# Altium footprint library SamacSys.PcbLib: 5 footprints
Each footprint in its own frame and in the unit in brackets; x right, y up, seen from the top. Pads: shape width x height; smd on the part's side, far side on the other; paste and mask are expansions set on the pad; w line width, h text height; cw(c..) or ccw(c..) is an arc to the next point about the centre after c.
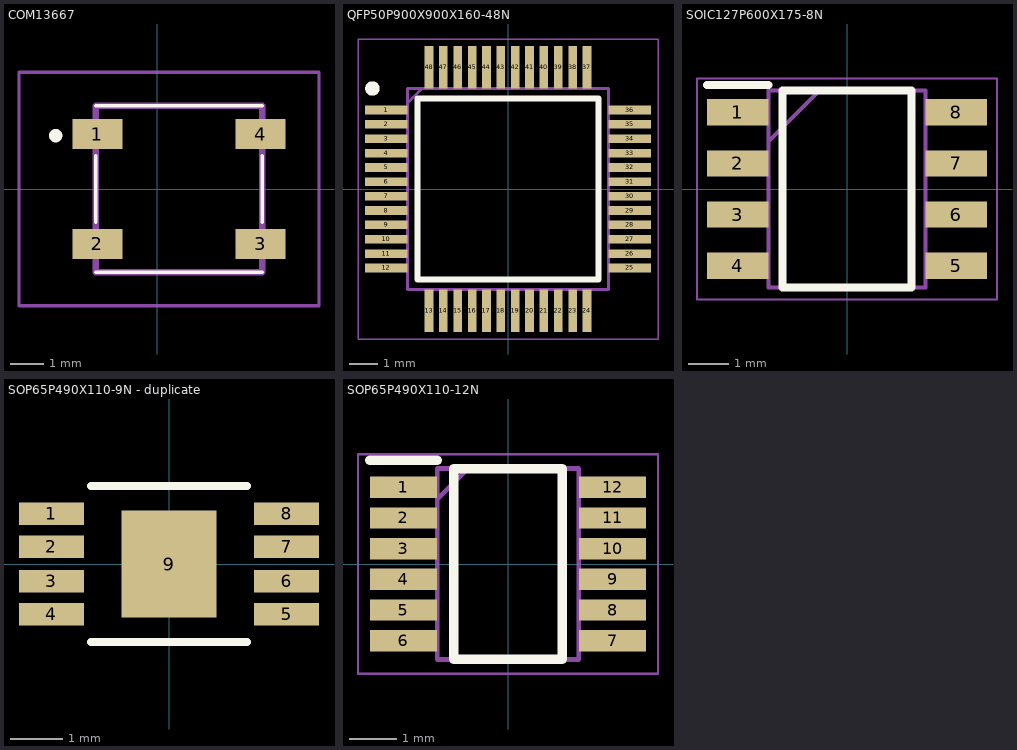
[diagram p0: the footprints below, top view; thin cyan lines are the x and y axes]

## COM13667 [mm]
pads (4):
  rect 1.5x0.9 smd: 1(-1.8,1.65) 2(-1.8,-1.65) 3(3.1,-1.65) 4(3.1,1.65)
Top Overlay:
  lines w0.1: -1.85,-2.5 3.15,-2.5 ; -1.85,-1 -1.85,1 ; -1.85,2.5 3.15,2.5 ; 3.15,-1 3.15,1
  lines w0.2: -3.05,1.5 cw(c-3.05,1.6) -3.05,1.7 cw(c-3.05,1.6) -3.05,1.5
Mechanical 13:
  lines w0.2: -1.85,-2.5 3.15,-2.5 3.15,2.5 -1.85,2.5 -1.85,-2.5
Mechanical 15:
  lines w0.1: -4.15,-3.5 4.85,-3.5 4.85,3.5 -4.15,3.5 -4.15,-3.5
3D body "COM-13667.stp": height 2.1, standoff 0, extent -2.46,-2.5 3.76,2.5

## QFP50P900X900X160-48N [mm]
pads (48):
  rect 1.475x0.3 smd: 1(-4.238,2.75) 2(-4.238,2.25) 3(-4.238,1.75) 4(-4.238,1.25) 5(-4.238,0.75) 6(-4.238,0.25) 7(-4.238,-0.25) 8(-4.238,-0.75) 9(-4.238,-1.25) 10(-4.238,-1.75) 11(-4.238,-2.25) 12(-4.238,-2.75) 25(4.238,-2.75) 26(4.238,-2.25) 27(4.238,-1.75) 28(4.238,-1.25) 29(4.238,-0.75) 30(4.238,-0.25) 31(4.238,0.25) 32(4.238,0.75) 33(4.238,1.25) 34(4.238,1.75) 35(4.238,2.25) 36(4.238,2.75)
  rect 0.3x1.475 smd: 13(-2.75,-4.238) 14(-2.25,-4.238) 15(-1.75,-4.238) 16(-1.25,-4.238) 17(-0.75,-4.238) 18(-0.25,-4.238) 19(0.25,-4.238) 20(0.75,-4.238) 21(1.25,-4.238) 22(1.75,-4.238) 23(2.25,-4.238) 24(2.75,-4.238) 37(2.75,4.238) 38(2.25,4.238) 39(1.75,4.238) 40(1.25,4.238) 41(0.75,4.238) 42(0.25,4.238) 43(-0.25,4.238) 44(-0.75,4.238) 45(-1.25,4.238) 46(-1.75,4.238) 47(-2.25,4.238) 48(-2.75,4.238)
Top Overlay:
  circle w0.25: c-4.725,3.5 r0.125
  lines w0.2: -3.15,-3.15 3.15,-3.15 3.15,3.15 -3.15,3.15 -3.15,-3.15
Mechanical 13:
  lines w0.1: -3.5,3 -3,3.5 ; -3.5,-3.5 3.5,-3.5 3.5,3.5 -3.5,3.5 -3.5,-3.5
Mechanical 15:
  lines w0.05: -5.225,-5.225 5.225,-5.225 5.225,5.225 -5.225,5.225 -5.225,-5.225
3D body "STM8L152C6T6.stp": height 1.6, standoff 0, extent -4.5,-4.5 4.5,4.5

## SOIC127P600X175-8N [mm]
pads (8):
  rect 1.525x0.65 smd: 1(-2.712,1.905) 2(-2.712,0.635) 3(-2.712,-0.635) 4(-2.712,-1.905) 5(2.712,-1.905) 6(2.712,-0.635) 7(2.712,0.635) 8(2.712,1.905)
Top Overlay:
  lines w0.2: -3.475,2.58 -1.95,2.58 ; -1.6,-2.45 -1.6,2.45 1.6,2.45 1.6,-2.45 -1.6,-2.45
Mechanical 13:
  lines w0.1: -1.95,1.18 -0.68,2.45 ; -1.95,-2.45 -1.95,2.45 1.95,2.45 1.95,-2.45 -1.95,-2.45
Mechanical 15:
  lines w0.05: -3.725,-2.75 -3.725,2.75 3.725,2.75 3.725,-2.75 -3.725,-2.75
3D body "NE555DR.stp": height 1.75, standoff 0, extent -3,-2.45 3,2.45

## SOP65P490X110-9N - duplicate [mil]
pads (9):
  rect 49x17 smd: 1(-89,38) 2(-89,13) 3(-89,-13) 4(-89,-38) 5(89,-38) 6(89,-13) 7(89,13) 8(89,38)
  rect 72x81 smd: 9(0,0)
Top Overlay:
  lines w6: -59,-59 59,-59 ; -59,59 59,59

## SOP65P490X110-12N [mm]
pads (12):
  rect 1.425x0.45 smd: 1(-2.212,1.625) 2(-2.212,0.975) 3(-2.212,0.325) 4(-2.212,-0.325) 5(-2.212,-0.975) 6(-2.212,-1.625) 7(2.212,-1.625) 8(2.212,-0.975) 9(2.212,-0.325) 10(2.212,0.325) 11(2.212,0.975) 12(2.212,1.625)
Top Overlay:
  lines w0.2: -2.925,2.2 -1.5,2.2 ; -1.15,-2.02 1.15,-2.02 1.15,2.02 -1.15,2.02 -1.15,-2.02
Mechanical 13:
  lines w0.1: -1.5,1.37 -0.85,2.02 ; -1.5,-2.02 1.5,-2.02 1.5,2.02 -1.5,2.02 -1.5,-2.02
Mechanical 15:
  lines w0.05: -3.175,-2.32 3.175,-2.32 3.175,2.32 -3.175,2.32 -3.175,-2.32
3D body "LTC3105EMS#TRPBF.stp": height 1.1, standoff 0, extent -2.45,-2.02 2.45,2.02